# Altium schematic symbol library 原理图元件库.SchLib: 18 symbols
Pins are listed as number, name and electrical type; pins without a type are passive.

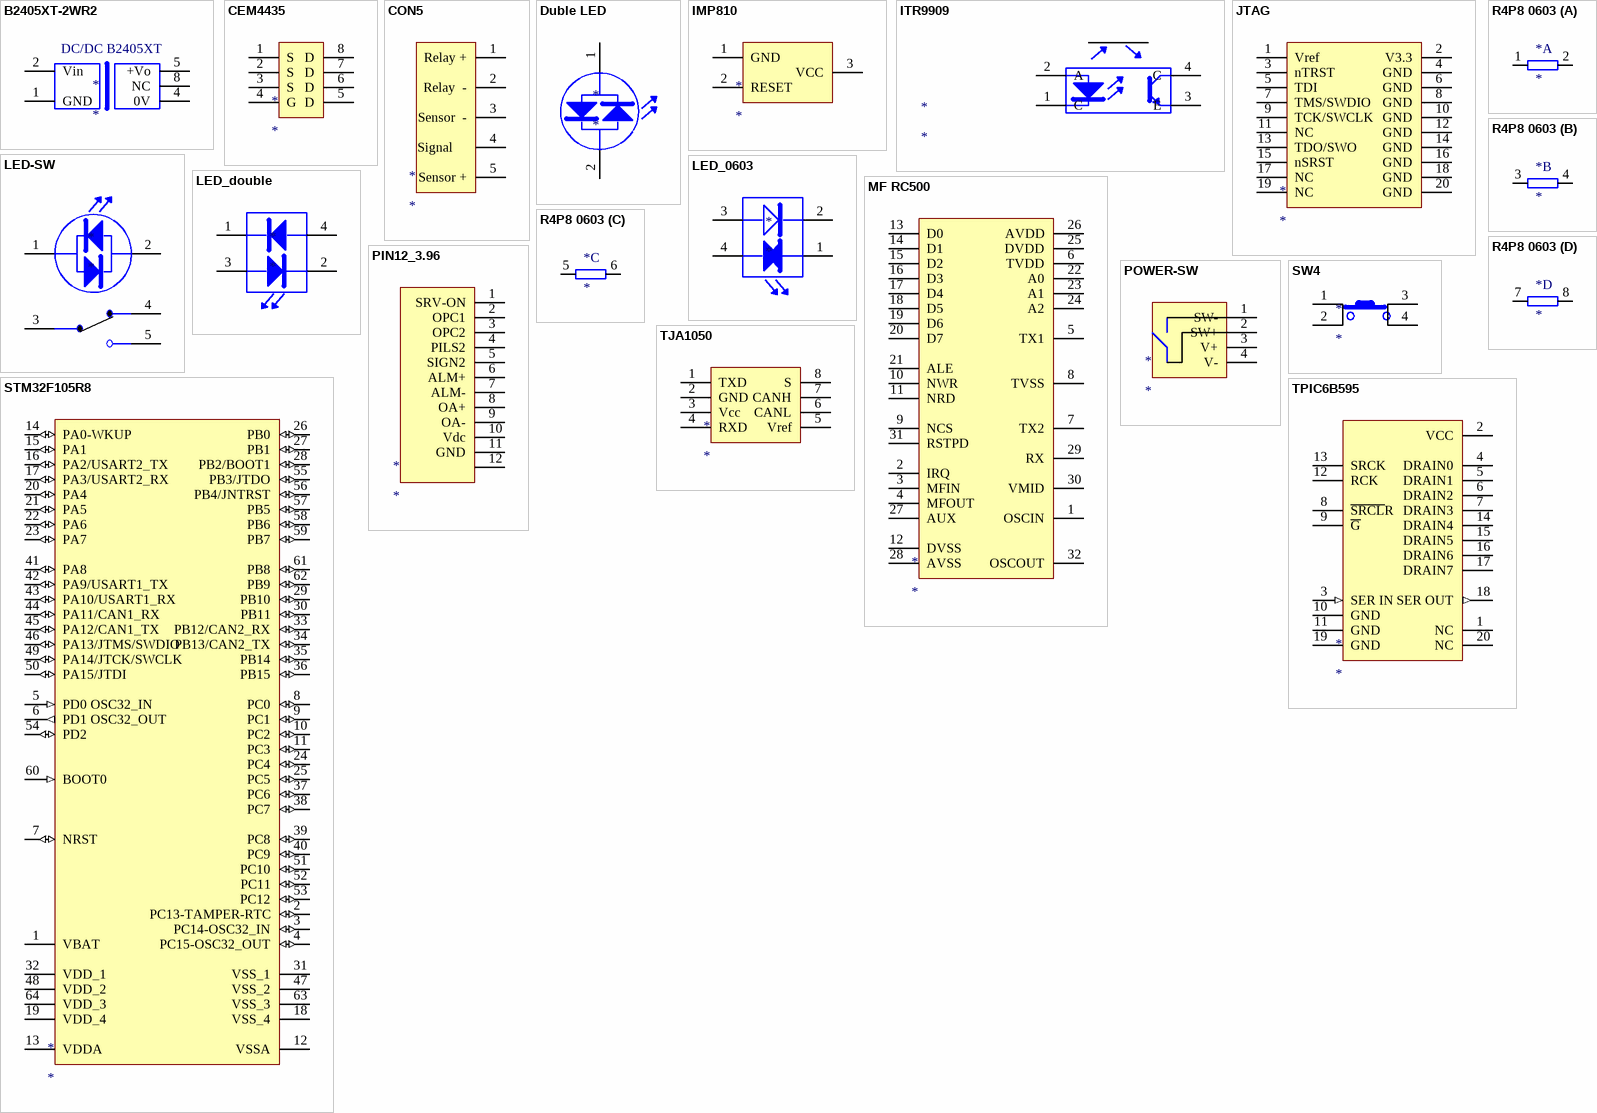
[diagram p0: symbols B2405XT-2WR2 to TPIC6B595]

## B2405XT-2WR2
designator *
pins: 1 GND, 2 Vin, 4 0V, 5 +Vo, 8 NC
text: DC/DC B2405XT

## CEM4435
designator *
pins: 1 S, 2 S, 3 S, 4 G, 5 D, 6 D, 7 D, 8 D

## CON5
designator *
pins: 1 Relay +, 2 Relay  -, 3 Sensor  -, 4 Signal    , 5 Sensor +

## Duble LED
designator *
pins: 1, 2

## IMP810
designator *
pins: 1 GND, 2 RESET, 3 VCC

## ITR9909
designator *
pins: 1 C, 2 A, 3 E, 4 C

## JTAG
designator *
pins: 1 Vref, 2 V3.3, 3 nTRST, 4 GND, 5 TDI, 6 GND, 7 TMS/SWDIO, 8 GND, 9 TCK/SWCLK, 10 GND, 11 NC, 12 GND, 13 TDO/SWO, 14 GND, 15 nSRST, 16 GND, 17 NC, 18 GND, 19 NC, 20 GND

## LED-SW
designator *
pins: 1, 2, 3 C, 4 NC, 5 NO

## LED_0603
designator *
pins: 1, 2, 3, 4

## LED_double
designator *
footprint Duble LED-0603
pins: 1, 2, 3, 4

## MF RC500
designator *
pins: 1 OSCIN, 2 IRQ, 3 MFIN, 4 MFOUT, 5 TX1, 6 TVDD, 7 TX2, 8 TVSS, 9 NCS, 10 NWR, 11 NRD, 12 DVSS, 13 D0, 14 D1, 15 D2, 16 D3, 17 D4, 18 D5, 19 D6, 20 D7, 21 ALE, 22 A0, 23 A1, 24 A2, 25 DVDD, 26 AVDD, 27 AUX, 28 AVSS, 29 RX, 30 VMID, 31 RSTPD, 32 OSCOUT

## PIN12_3.96
designator *
pins: 1 SRV-ON, 2 OPC1, 3 OPC2, 4 PILS2, 5 SIGN2, 6 ALM+, 7 ALM-, 8 OA+, 9 OA-, 10 Vdc, 11 GND, 12

## POWER-SW
designator *
pins: 1 SW-, 2 SW+, 3 V+, 4 V-

## R4P8 0603
designator *
part A pins: 1, 2
part B pins: 3, 4
part C pins: 5, 6
part D pins: 7, 8

## STM32F105R8
designator *
pins: 1 VBAT (power), 2 PC13-TAMPER-RTC (io), 3 PC14-OSC32_IN (io), 4 PC15-OSC32_OUT (io), 5 PD0 OSC32_IN (in), 6 PD1 OSC32_OUT (out), 7 NRST (io), 8 PC0 (io), 9 PC1 (io), 10 PC2 (io), 11 PC3 (io), 12 VSSA (power), 13 VDDA (power), 14 PA0-WKUP (io), 15 PA1 (io), 16 PA2/USART2_TX (io), 17 PA3/USART2_RX (io), 18 VSS_4 (power), 19 VDD_4 (power), 20 PA4 (io), 21 PA5 (io), 22 PA6 (io), 23 PA7 (io), 24 PC4 (io), 25 PC5 (io), 26 PB0 (io), 27 PB1 (io), 28 PB2/BOOT1 (io), 29 PB10 (io), 30 PB11 (io), 31 VSS_1 (power), 32 VDD_1 (power), 33 PB12/CAN2_RX (io), 34 PB13/CAN2_TX (io), 35 PB14 (io), 36 PB15 (io), 37 PC6 (io), 38 PC7 (io), 39 PC8 (io), 40 PC9 (io), 41 PA8 (io), 42 PA9/USART1_TX (io), 43 PA10/USART1_RX (io), 44 PA11/CAN1_RX (io), 45 PA12/CAN1_TX (io), 46 PA13/JTMS/SWDIO (io), 47 VSS_2 (power), 48 VDD_2 (power), 49 PA14/JTCK/SWCLK (io), 50 PA15/JTDI (io), 51 PC10 (io), 52 PC11 (io), 53 PC12 (io), 54 PD2 (io), 55 PB3/JTDO (io), 56 PB4/JNTRST (io), 57 PB5 (io), 58 PB6 (io), 59 PB7 (io), 60 BOOT0 (in), 61 PB8 (io), 62 PB9 (io), 63 VSS_3 (power), 64 VDD_3 (power)

## SW4
designator *
pins: 1, 2, 3, 4

## TJA1050
designator *
pins: 1 TXD, 2 GND, 3 Vcc, 4 RXD, 5 Vref, 6 CANL, 7 CANH, 8 S

## TPIC6B595
designator *
pins: 1 NC, 2 VCC (power), 3 SER IN (in), 4 DRAIN0, 5 DRAIN1, 6 DRAIN2, 7 DRAIN3, 8 ~{SRCL}R, 9 ~{G}, 10 GND (power), 11 GND (power), 12 RCK, 13 SRCK, 14 DRAIN4, 15 DRAIN5, 16 DRAIN6, 17 DRAIN7, 18 SER OUT (out), 19 GND (power), 20 NC